# Altium integrated library Integrated_Library1.IntLib: 1 symbol
Pins are listed as number, name and electrical type; pins without a type are passive.

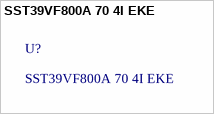
[diagram p0: symbol SST39VF800A 70 4I EKE]

## SST39VF800A 70 4I EKE
designator U?
footprint SST39VF800A 70 4I EKE